# Altium integrated library RK097 Telescopic Shaft.IntLib: 1 symbol
Pins are listed as number, name and electrical type; pins without a type are passive.

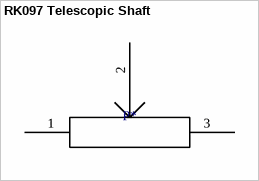
[diagram p0: symbol RK097 Telescopic Shaft]

## RK097 Telescopic Shaft
designator P*
Check grabcad for more info; Manufacturer: xingyuanke; ComponentLink1Description: GrabCad link; ComponentLink1URL: https://grabcad.com/library/rk097-telescopic-shaft-kind-of-like-rk097111t-read-description-1; ComponentLink2Description: Aliexpress link; ComponentLink2URL: https://aliexpress.ru/item/1005007751352743.html?businessType=ProductDetail&sku_id=12000042084258269&spreadType=socialShare&srcSns=sns_More&utm_medium=sharing
footprint RK097 Telescopic Shaft WITH OVERLAY&HOLE
footprint RK097 Telescopic Shaft NO OVERLAY&HOLE
pins: 1, 2, 3